# EAGLE library part AD9850 (library MSA_lib)
DDS
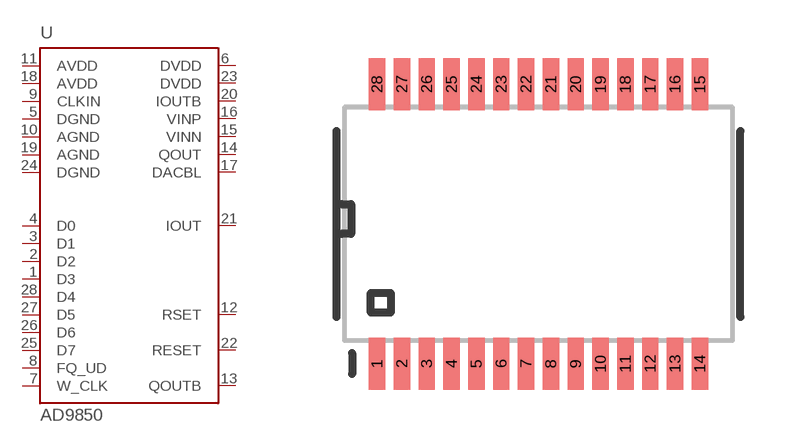
[diagram p11: symbol with the pads of SSOP28; footprint SSOP28]

Designator prefix U

## AD9850 (OC_FARNELL: 2308695)  [SSOP28]
1  D3
2  D2
3  D1
4  D0
5  DGND
6  DVDD
7  W_CLK
8  FQ_UD
9  CLKIN
10  AGND
11  AVDD
12  RSET
13  QOUTB
14  QOUT
15  VINN
16  VINP
17  DACBL
18  AVDD
19  AGND
20  IOUTB
21  IOUT
22  RESET
23  DVDD
24  DGND
25  D7
26  D6
27  D5
28  D4

## Footprint SSOP28 (pad centres in mm)
smd 0.42 x 1.34: 1 -4.16,-3.6; 2 -3.52,-3.6; 3 -2.88,-3.6; 4 -2.24,-3.6; 5 -1.6,-3.6; 6 -0.96,-3.6; 7 -0.32,-3.6; 8 0.32,-3.6; 9 0.96,-3.6; 10 1.6,-3.6; 11 2.24,-3.6; 12 2.88,-3.6; 13 3.52,-3.6; 14 4.16,-3.6; 15 4.16,3.6; 16 3.52,3.6; 17 2.88,3.6; 18 2.24,3.6; 19 1.6,3.6; 20 0.96,3.6; 21 0.32,3.6; 22 -0.32,3.6; 23 -0.96,3.6; 24 -1.6,3.6; 25 -2.24,3.6; 26 -2.88,3.6; 27 -3.52,3.6; 28 -4.16,3.6